# Altium footprint library SAMTEC_ERF8.PCBLIB: 2 footprints
Each footprint in its own frame and in the unit in brackets; x right, y up, seen from the top. Pads: shape width x height; smd on the part's side, far side on the other; paste and mask are expansions set on the pad; w line width, h text height; cw(c..) or ccw(c..) is an arc to the next point about the centre after c.
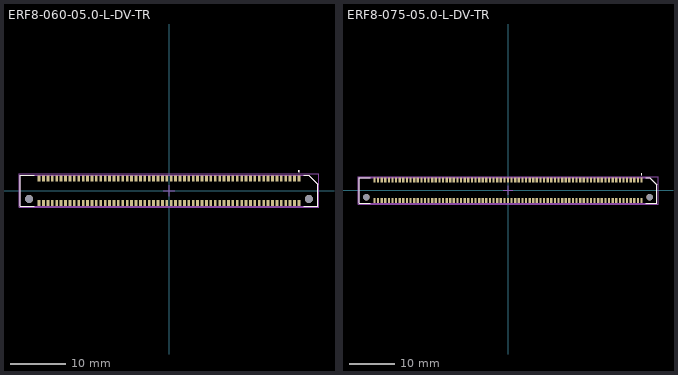
[diagram p0: the footprints below, top view; thin cyan lines are the x and y axes]

## ERF8-060-05.0-L-DV-TR [mm]
pads (122):
  rect 0.5x1.1 smd: 1(23.6,2.25) 2(23.6,-2.25) 3(22.8,2.25) 4(22.8,-2.25) 5(22,2.25) 6(22,-2.25) 7(21.2,2.25) 8(21.2,-2.25) 9(20.4,2.25) 10(20.4,-2.25) 11(19.6,2.25) 12(19.6,-2.25) 13(18.8,2.25) 14(18.8,-2.25) 15(18,2.25) 16(18,-2.25) 17(17.2,2.25) 18(17.2,-2.25) 19(16.4,2.25) 20(16.4,-2.25) 21(15.6,2.25) 22(15.6,-2.25) 23(14.8,2.25) 24(14.8,-2.25) 25(14,2.25) 26(14,-2.25) 27(13.2,2.25) 28(13.2,-2.25) 29(12.4,2.25) 30(12.4,-2.25) 31(11.6,2.25) 32(11.6,-2.25) 33(10.8,2.25) 34(10.8,-2.25) 35(10,2.25) 36(10,-2.25) 37(9.2,2.25) 38(9.2,-2.25) 39(8.4,2.25) 40(8.4,-2.25) 41(7.6,2.25) 42(7.6,-2.25) 43(6.8,2.25) 44(6.8,-2.25) 45(6,2.25) 46(6,-2.25) 47(5.2,2.25) 48(5.2,-2.25) 49(4.4,2.25) 50(4.4,-2.25) 51(3.6,2.25) 52(3.6,-2.25) 53(2.8,2.25) 54(2.8,-2.25) 55(2,2.25) 56(2,-2.25) 57(1.2,2.25) 58(1.2,-2.25) 59(0.4,2.25) 60(0.4,-2.25) 61(-0.4,2.25) 62(-0.4,-2.25) 63(-1.2,2.25) 64(-1.2,-2.25) 65(-2,2.25) 66(-2,-2.25) 67(-2.8,2.25) 68(-2.8,-2.25) 69(-3.6,2.25) 70(-3.6,-2.25) 71(-4.4,2.25) 72(-4.4,-2.25) 73(-5.2,2.25) 74(-5.2,-2.25) 75(-6,2.25) 76(-6,-2.25) 77(-6.8,2.25) 78(-6.8,-2.25) 79(-7.6,2.25) 80(-7.6,-2.25) 81(-8.4,2.25) 82(-8.4,-2.25) 83(-9.2,2.25) 84(-9.2,-2.25) 85(-10,2.25) 86(-10,-2.25) 87(-10.8,2.25) 88(-10.8,-2.25) 89(-11.6,2.25) 90(-11.6,-2.25) 91(-12.4,2.25) 92(-12.4,-2.25) 93(-13.2,2.25) 94(-13.2,-2.25) 95(-14,2.25) 96(-14,-2.25) 97(-14.8,2.25) 98(-14.8,-2.25) 99(-15.6,2.25) 100(-15.6,-2.25) 101(-16.4,2.25) 102(-16.4,-2.25) 103(-17.2,2.25) 104(-17.2,-2.25) 105(-18,2.25) 106(-18,-2.25) 107(-18.8,2.25) 108(-18.8,-2.25) 109(-19.6,2.25) 110(-19.6,-2.25) 111(-20.4,2.25) 112(-20.4,-2.25) 113(-21.2,2.25) 114(-21.2,-2.25) 115(-22,2.25) 116(-22,-2.25) 117(-22.8,2.25) 118(-22.8,-2.25) 119(-23.6,2.25) 120(-23.6,-2.25)
  round 1.45 hole 1.45 unplated: ""(-25.4,-1.5) ""(25.4,-1.5)
Top Overlay:
  circle w0.2: c23.6,3.56 r0.1
  lines w0.2: -24.5,-2.8 -27,-2.8 -27,2.8 -24.5,2.8 ; 24.5,-2.8 27,-2.8 27,1.2 25.4,2.8 24.5,2.8
Top Assembly:
  circle w0.2: c23.6,3.56 r0.1
  lines w0.1: -27,-2.8 27,-2.8 27,1.2 25.4,2.8 -27,2.8 -27,-2.8
Top Courtyard:
  lines w0.05: -27.25,-3.05 27.25,-3.05 27.25,3.05 -27.25,3.05 -27.25,-3.05
Top Designator:
  text ".Designator" at -0.4,-0.4 h0.76
Top Component Center:
  lines w0.2: -1,0 1,0 ; 0,-1 0,1
3D body "ERF8-060-05.0-L-DV-TR.stp": height 5.34, standoff -1.04, extent -27,-2.8 27,2.8

## ERF8-075-05.0-L-DV-TR [mm]
pads (152):
  rect 0.5x1.1 smd: 1(29.6,2.25) 2(29.6,-2.25) 3(28.8,2.25) 4(28.8,-2.25) 5(28,2.25) 6(28,-2.25) 7(27.2,2.25) 8(27.2,-2.25) 9(26.4,2.25) 10(26.4,-2.25) 11(25.6,2.25) 12(25.6,-2.25) 13(24.8,2.25) 14(24.8,-2.25) 15(24,2.25) 16(24,-2.25) 17(23.2,2.25) 18(23.2,-2.25) 19(22.4,2.25) 20(22.4,-2.25) 21(21.6,2.25) 22(21.6,-2.25) 23(20.8,2.25) 24(20.8,-2.25) 25(20,2.25) 26(20,-2.25) 27(19.2,2.25) 28(19.2,-2.25) 29(18.4,2.25) 30(18.4,-2.25) 31(17.6,2.25) 32(17.6,-2.25) 33(16.8,2.25) 34(16.8,-2.25) 35(16,2.25) 36(16,-2.25) 37(15.2,2.25) 38(15.2,-2.25) 39(14.4,2.25) 40(14.4,-2.25) 41(13.6,2.25) 42(13.6,-2.25) 43(12.8,2.25) 44(12.8,-2.25) 45(12,2.25) 46(12,-2.25) 47(11.2,2.25) 48(11.2,-2.25) 49(10.4,2.25) 50(10.4,-2.25) 51(9.6,2.25) 52(9.6,-2.25) 53(8.8,2.25) 54(8.8,-2.25) 55(8,2.25) 56(8,-2.25) 57(7.2,2.25) 58(7.2,-2.25) 59(6.4,2.25) 60(6.4,-2.25) 61(5.6,2.25) 62(5.6,-2.25) 63(4.8,2.25) 64(4.8,-2.25) 65(4,2.25) 66(4,-2.25) 67(3.2,2.25) 68(3.2,-2.25) 69(2.4,2.25) 70(2.4,-2.25) 71(1.6,2.25) 72(1.6,-2.25) 73(0.8,2.25) 74(0.8,-2.25) 75(0,2.25) 76(0,-2.25) 77(-0.8,2.25) 78(-0.8,-2.25) 79(-1.6,2.25) 80(-1.6,-2.25) 81(-2.4,2.25) 82(-2.4,-2.25) 83(-3.2,2.25) 84(-3.2,-2.25) 85(-4,2.25) 86(-4,-2.25) 87(-4.8,2.25) 88(-4.8,-2.25) 89(-5.6,2.25) 90(-5.6,-2.25) 91(-6.4,2.25) 92(-6.4,-2.25) 93(-7.2,2.25) 94(-7.2,-2.25) 95(-8,2.25) 96(-8,-2.25) 97(-8.8,2.25) 98(-8.8,-2.25) 99(-9.6,2.25) 100(-9.6,-2.25) 101(-10.4,2.25) 102(-10.4,-2.25) 103(-11.2,2.25) 104(-11.2,-2.25) 105(-12,2.25) 106(-12,-2.25) 107(-12.8,2.25) 108(-12.8,-2.25) 109(-13.6,2.25) 110(-13.6,-2.25) 111(-14.4,2.25) 112(-14.4,-2.25) 113(-15.2,2.25) 114(-15.2,-2.25) 115(-16,2.25) 116(-16,-2.25) 117(-16.8,2.25) 118(-16.8,-2.25) 119(-17.6,2.25) 120(-17.6,-2.25) 121(-18.4,2.25) 122(-18.4,-2.25) 123(-19.2,2.25) 124(-19.2,-2.25) 125(-20,2.25) 126(-20,-2.25) 127(-20.8,2.25) 128(-20.8,-2.25) 129(-21.6,2.25) 130(-21.6,-2.25) 131(-22.4,2.25) 132(-22.4,-2.25) 133(-23.2,2.25) 134(-23.2,-2.25) 135(-24,2.25) 136(-24,-2.25) 137(-24.8,2.25) 138(-24.8,-2.25) 139(-25.6,2.25) 140(-25.6,-2.25) 141(-26.4,2.25) 142(-26.4,-2.25) 143(-27.2,2.25) 144(-27.2,-2.25) 145(-28,2.25) 146(-28,-2.25) 147(-28.8,2.25) 148(-28.8,-2.25) 149(-29.6,2.25) 150(-29.6,-2.25)
  round 1.45 hole 1.45 unplated: ""(-31.4,-1.5) ""(31.4,-1.5)
Top Overlay:
  circle w0.2: c29.6,3.56 r0.1
  lines w0.2: -30.5,-2.8 -33,-2.8 -33,2.8 -30.5,2.8 ; 30.5,-2.8 33,-2.8 33,1.2 31.4,2.8 30.5,2.8
Top Assembly:
  circle w0.2: c29.6,3.56 r0.1
  lines w0.1: -33,-2.8 33,-2.8 33,1.2 31.4,2.8 -33,2.8 -33,-2.8
Top Courtyard:
  lines w0.05: -33.25,-3.05 33.25,-3.05 33.25,3.05 -33.25,3.05 -33.25,-3.05
Top Designator:
  text ".Designator" at -0.4,-0.4 h0.76
Top Component Center:
  lines w0.2: -1,0 1,0 ; 0,-1 0,1
3D body "ERF8-075-05.0-L-DV-TR.stp": height 5.34, standoff -1.04, extent -33,-2.8 33,2.8